# EAGLE library part TC74HC4066AFT (library SparkFun-DigitalIC)
TC74HC4066AFT
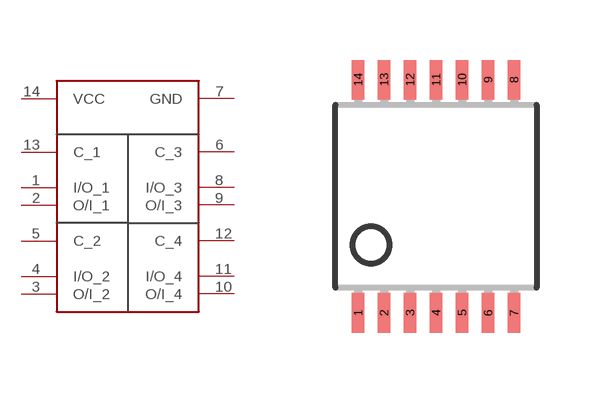
[diagram p132: symbol with the pads of TSSOP14; footprint TSSOP14]

Designator prefix -

## TC74HC4066AFT  [TSSOP14]
1  I/O_1
2  O/I_1
3  O/I_2
4  I/O_2
5  C_2
6  C_3
7  GND
8  I/O_3
9  O/I_3
10  O/I_4
11  I/O_4
12  C_4
13  C_1
14  VCC

## Footprint TSSOP14 (pad centres in mm)
Thin Shrink Small Outline Plastic 14
smd 0.305 x 0.991: 1 -1.95,-2.918; 2 -1.3,-2.918; 3 -0.65,-2.918; 4 0,-2.918; 5 0.65,-2.918; 6 1.3,-2.918; 7 1.95,-2.918; 8 1.95,2.918; 9 1.3,2.918; 10 0.65,2.918; 11 0,2.918; 12 -0.65,2.918; 13 -1.3,2.918; 14 -1.95,2.918